# Altium footprint library HEADER_M_2x10_2.54.PcbLib: 1 footprints
Each footprint in its own frame and in the unit in brackets; x right, y up, seen from the top. Pads: shape width x height; smd on the part's side, far side on the other; paste and mask are expansions set on the pad; w line width, h text height; cw(c..) or ccw(c..) is an arc to the next point about the centre after c.
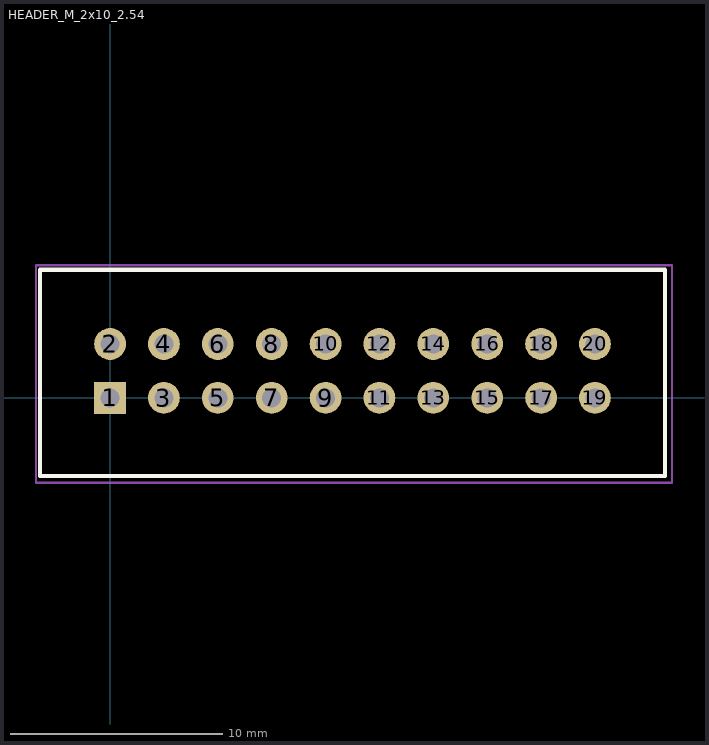
[diagram p0: the footprint, top view; thin cyan lines are the x and y axes]

## HEADER_M_2x10_2.54 [mm] "Connector; Header; 10 Position; Male"
pads (20):
  rect 1.5x1.5 hole 0.9: 1(0,0)
  round 1.5 hole 0.9: 2(0,2.54) 3(2.54,0) 4(2.54,2.54) 5(5.08,0) 6(5.08,2.54) 7(7.62,0) 8(7.62,2.54) 9(10.16,0) 10(10.16,2.54) 11(12.7,0) 12(12.7,2.54) 13(15.24,0) 14(15.24,2.54) 15(17.78,0) 16(17.78,2.54) 17(20.32,0) 18(20.32,2.54) 19(22.86,0) 20(22.86,2.54)
Top Overlay:
  lines w0.2: -3.302,-3.683 26.162,-3.683 26.162,-0.762 26.162,6.045 2.464,6.045 -3.302,6.045 -3.302,3.302 -3.302,-3.683
Top Assembly:
  lines w0.1: -3.5,-4 26.5,-4 26.5,6.25 -3.5,6.25 -3.5,-4
Top Courtyard:
  lines w0.1: -3.5,-4 -3.5,6.25 26.5,6.25 26.5,-4 -3.5,-4
3D body "User Library-Samtec-TSS-110-01-G-D.STEP": height 8.89, standoff -3.3, extent -3.175,-3.569 26.035,5.906